# EAGLE library part ACPL-782T-300E (library ruark2)
Isolation Amplifier 1 Circuit Differential 8-DIP Gull Wing
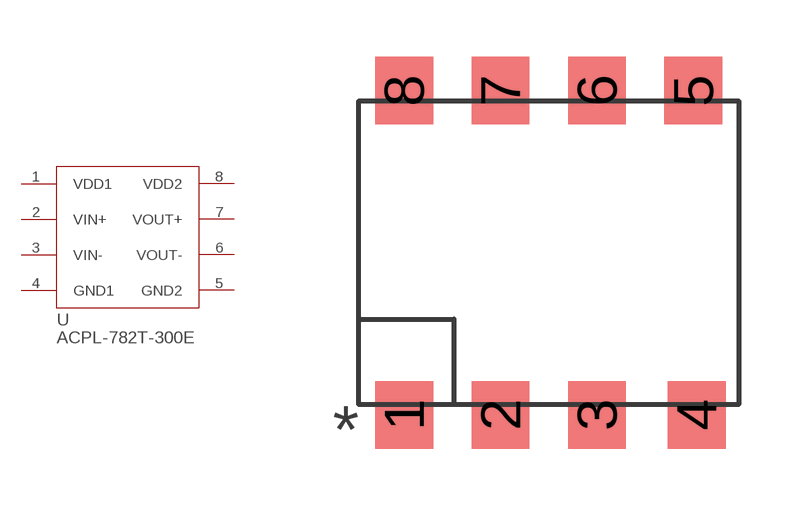
[diagram p158: symbol with the pads of 8SMD; footprint 8SMD]

Designator prefix U

## ACPL-782T-300E (PARTNO: 516-2337-5-ND)  [8SMD]
1  VDD1
2  VIN+
3  VIN-
4  GND1
5  GND2
6  VOUT-
7  VOUT+
8  VDD2

## Footprint 8SMD (pad centres in mm)
smd 1.524 x 1.778: 1 -3.81,-4.27; 2 -1.27,-4.27; 3 1.27,-4.27; 4 3.9,-4.27; 5 3.81,4.27; 6 1.27,4.27; 7 -1.27,4.27; 8 -3.81,4.27